# EAGLE library part CP2104 (library Silicon Labs)
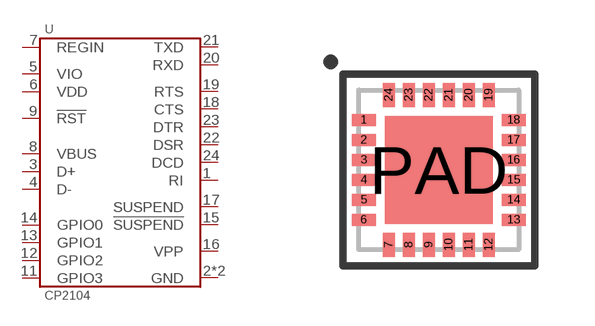
[diagram p2: symbol with the pads of QFN-24-4X4; footprint QFN-24-4X4]

Designator prefix U

## CP2104-F03-GM  [QFN-24-4X4]
1  RI
2  GND
3  D+
4  D-
5  VIO
6  VDD
7  REGIN
8  VBUS
9  !RST
11  GPIO3
12  GPIO2
13  GPIO1
14  GPIO0
15  !SUSPEND
16  VPP
17  SUSPEND
18  CTS
19  RTS
20  RXD
21  TXD
22  DSR
23  DTR
24  DCD
PAD  GND

## Footprint QFN-24-4X4 (pad centres in mm)
smd 0.6 x 0.3: 1 -1.875,1.25; 2 -1.875,0.75; 3 -1.875,0.25; 4 -1.875,-0.25; 5 -1.875,-0.75; 6 -1.875,-1.25; 13 1.875,-1.25; 14 1.875,-0.75; 15 1.875,-0.25; 16 1.875,0.25; 17 1.875,0.75; 18 1.875,1.25
smd 0.3 x 0.6: 7 -1.25,-1.875; 8 -0.75,-1.875; 9 -0.25,-1.875; 10 0.25,-1.875; 11 0.75,-1.875; 12 1.25,-1.875; 19 1.25,1.875; 20 0.75,1.875; 21 0.25,1.875; 22 -0.25,1.875; 23 -0.75,1.875; 24 -1.25,1.875
smd 2.7 x 2.7: PAD 0,0